# Altium schematic symbol library Processor.SchLib: 6 symbols
Pins are listed as number, name and electrical type; pins without a type are passive.

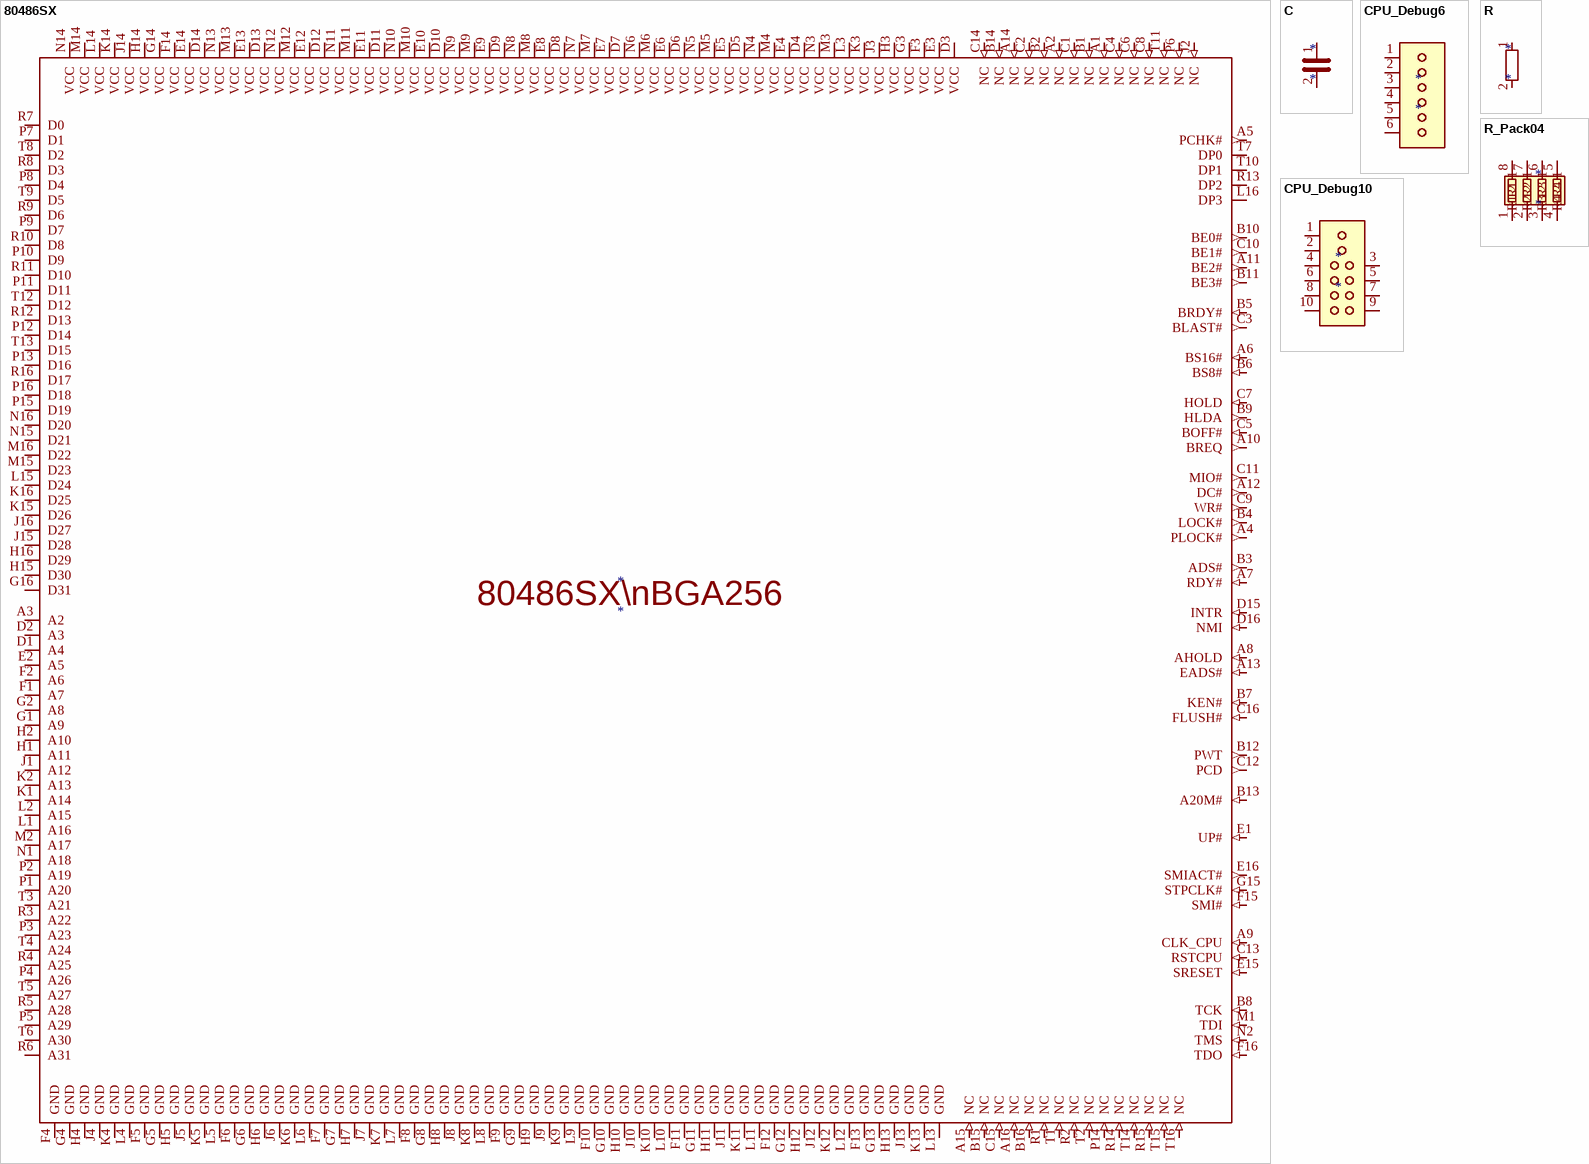
[diagram p0: symbols 80486SX to R_Pack04]

## 80486SX
designator *
pins: A1 NC (in), A2 NC (in), A3 A2 (io), A4 PLOCK# (out), A5 PCHK# (out), A6 BS16# (in), A7 RDY# (in), A8 AHOLD (in), A9 CLK_CPU (in), A10 BREQ (out), A11 BE2# (out), A12 DC# (out), A13 EADS# (in), A14 NC (in), A15 NC (in), A16 NC (in), B1 NC (in), B2 NC (in), B3 ADS# (out), B4 LOCK# (out), B5 BRDY# (in), B6 BS8# (in), B7 KEN# (in), B8 TCK (in), B9 HLDA (out), B10 BE0# (out), B11 BE3# (out), B12 PWT (out), B13 A20M# (in), B14 NC (in), B15 NC (in), B16 NC (in), C1 NC (in), C2 NC (in), C3 BLAST# (out), C4 NC (in), C5 BOFF# (in), C6 NC (in), C7 HOLD (in), C8 NC (in), C9 WR# (out), C10 BE1# (out), C11 MIO# (out), C12 PCD (out), C13 RSTCPU (in), C14 NC (in), C15 NC (in), C16 FLUSH# (in), D1 A4 (io), D2 A3 (io), D3 VCC (power), D4 VCC (power), D5 VCC (power), D6 VCC (power), D7 VCC (power), D8 VCC (power), D9 VCC (power), D10 VCC (power), D11 VCC (power), D12 VCC (power), D13 VCC (power), D14 VCC (power), D15 INTR (in), D16 NMI (in), E1 UP# (in), E2 A5 (io), E3 VCC (power), E4 VCC (power), E5 VCC (power), E6 VCC (power), E7 VCC (power), E8 VCC (power), E9 VCC (power), E10 VCC (power), E11 VCC (power), E12 VCC (power), E13 VCC (power), E14 VCC (power), E15 SRESET (in), E16 SMIACT# (out), F1 A7 (io), F2 A6 (io), F3 VCC (power), F4 GND (power), F5 GND (power), F6 GND (power), F7 GND (power), F8 GND (power), F9 GND (power), F10 GND (power), F11 GND (power), F12 GND (power), F13 GND (power), F14 VCC (power), F15 SMI# (in), F16 TDO (in), G1 A9 (io), G2 A8 (io), G3 VCC (power), G4 GND (power), G5 GND (power), G6 GND (power), G7 GND (power), G8 GND (power), G9 GND (power), G10 GND (power), G11 GND (power), G12 GND (power), G13 GND (power), G14 VCC (power), G15 STPCLK# (in), G16 D31 (io), H1 A11 (io), H2 A10 (io), H3 VCC (power), H4 GND (power), H5 GND (power), H6 GND (power), H7 GND (power), H8 GND (power), H9 GND (power), H10 GND (power), H11 GND (power), H12 GND (power), H13 GND (power), H14 VCC (power), H15 D30 (io), H16 D29 (io), J1 A12 (io), J2 NC (in), J3 VCC (power), J4 GND (power), J5 GND (power), J6 GND (power), J7 GND (power), J8 GND (power), J9 GND (power), J10 GND (power), J11 GND (power), J12 GND (power), J13 GND (power), J14 VCC (power), J15 D28 (io), J16 D27 (io), K1 A14 (io), K2 A13 (io), K3 VCC (power), K4 GND (power), K5 GND (power), K6 GND (power), K7 GND (power), K8 GND (power), K9 GND (power), K10 GND (power), K11 GND (power), K12 GND (power), K13 GND (power), K14 VCC (power), K15 D26 (io), K16 D25 (io), L1 A16 (io), L2 A15 (io), L3 VCC (power), L4 GND (power), L5 GND (power), L6 GND (power), L7 GND (power), L8 GND (power), L9 GND (power), L10 GND (power), L11 GND (power), L12 GND (power), L13 GND (power), L14 VCC (power), L15 D24 (io), L16 DP3 (io), M1 TDI (in), M2 A17 (io), M3 VCC (power), M4 VCC (power), M5 VCC (power), M6 VCC (power), M7 VCC (power), M8 VCC (power), M9 VCC (power), M10 VCC (power), M11 VCC (power), M12 VCC (power), M13 VCC (power), M14 VCC (power), M15 D23 (io), M16 D22 (io), N1 A18 (io), N2 TMS (in), N3 VCC (power), N4 VCC (power), N5 VCC (power), N6 VCC (power), N7 VCC (power), N8 VCC (power), N9 VCC (power), N10 VCC (power), N11 VCC (power), N12 VCC (power), N13 VCC (power), N14 VCC (power), N15 D21 (io), N16 D20 (io), P1 A20 (io), P2 A19 (io), P3 A23 (io), P4 A26 (io), P5 A29 (io), P6 NC (in), P7 D1 (io), P8 D4 (io), P9 D7 (io), P10 D9 (io), P11 D11 (io), P12 D14 (io), P13 D16 (io), P14 NC (in), P15 D19 (io), P16 D18 (io), R1 NC (in), R2 NC (in), R3 A22 (io), R4 A25 (io), R5 A28 (io), R6 A31 (io), R7 D0 (io), R8 D3 (io), R9 D6 (io), R10 D8 (io), R11 D10 (io), R12 D13 (io), R13 DP2 (io), R14 NC (in), R15 NC (in), R16 D17 (io), T1 NC (in), T2 NC (in), T3 A21 (io), T4 A24 (io), T5 A27 (io), T6 A30 (io), T7 DP0 (io), T8 D2 (io), T9 D5 (io), T10 DP1 (io), T11 NC (in), T12 D12 (io), T13 D15 (io), T14 NC (in), T15 NC (in), T16 NC (in)
text: 80486SX\nBGA256

## C
designator *
pins: 1, 2

## CPU_Debug6
designator *
pins: 1, 2, 3, 4, 5, 6

## CPU_Debug10
designator *
pins: 1, 2, 3, 4, 5, 6, 7, 8, 9, 10

## R
designator *
pins: 1, 2

## R_Pack04
designator *
pins: 1 R1.1, 2 R2.1, 3 R3.1, 4 R4.1, 5 R4.2, 6 R3.2, 7 R2.2, 8 R1.2